# Altium footprint library MedEnginePCBLib.PcbLib: 54 footprints (part 3 of 4)
Each footprint in its own frame and in the unit in brackets; x right, y up, seen from the top. Pads: shape width x height; smd on the part's side, far side on the other; paste and mask are expansions set on the pad; w line width, h text height; cw(c..) or ccw(c..) is an arc to the next point about the centre after c.
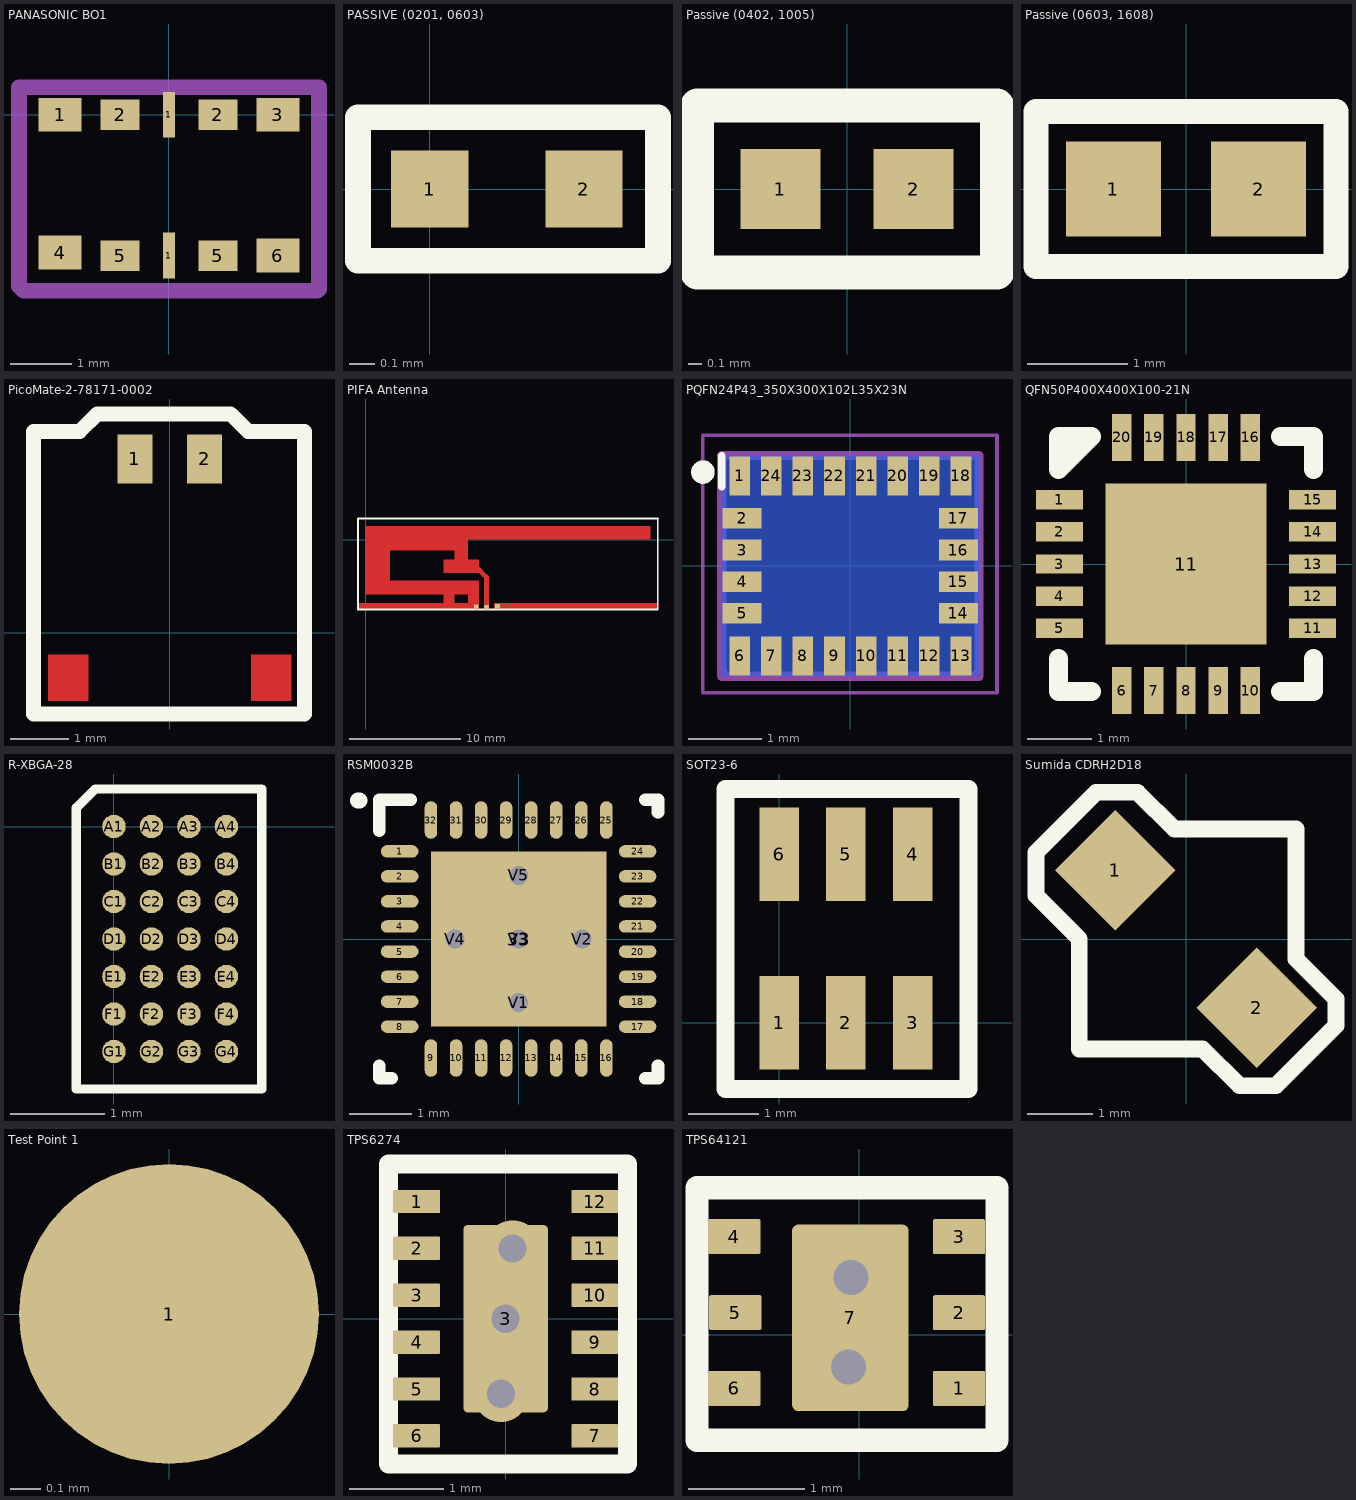
[diagram p2: the footprints below, top view; thin cyan lines are the x and y axes]

## PANASONIC BO1 [mm]
pads (10):
  rect 0.7x0.55 smd mask+0.05: 1(-1.78,0) 3(1.78,0) 4(-1.78,-2.25) 6(1.78,-2.3)
  rect 0.2x0.75 smd mask+0.05: 1(0,-2.3) 1(0,0)
  rect 0.64x0.5 smd mask+0.05: 2(-0.8,0) 2(0.8,0) 5(-0.8,-2.3) 5(0.8,-2.3)
Mechanical 1:
  lines w0.254: 2.45,0.45 2.45,-2.85 2.425,-2.875 -2.375,-2.875 -2.45,-2.8 -2.45,0.45 2.45,0.45 ; 2.45,0.45 2.45,0.45
3D body "axf361500.step": height 0.59, standoff 0, extent -2.225,-2.325 2.225,0.075

## PASSIVE (0201, 0603) [mm] "PASSIVE (0201, 0603)"
pads (2):
  rect 0.3x0.3 smd mask+0.05: 1(0,0) 2(0.6,0)
Top Overlay:
  lines w0.1: -0.279,-0.279 0.889,-0.279 0.889,0.279 0.127,0.279 -0.279,0.279 -0.279,-0.279
3D body "User Library-RES_0201-0603.STEP": height 0.34, standoff 0, extent -0.035,-0.165 0.645,0.165

## Passive (0402, 1005) [mm]
height 3
pads (2):
  rect 0.6x0.6 smd: 1(-0.5,0) 2(0.5,0)
Top Overlay:
  lines w0.254: -1.125,-0.625 -1.125,0.625 1.125,0.625 1.125,-0.625 -1.125,-0.625
3D body "User Library-RESC1005X04N.step": height 0.35, standoff 0, extent -0.5,-0.25 0.5,0.25

## Passive (0603, 1608) [mm]
height 3
pads (2):
  rect 0.95x0.95 smd: 1(-0.725,0) 2(0.725,0)
Top Overlay:
  lines w0.254: -1.5,-0.775 -1.5,0.775 1.5,0.775 1.5,-0.775 -1.5,-0.775
3D body "1608.STEP": height 0.45, standoff 0, extent -0.775,-0.425 0.775,0.425

## PCBComponent_1 - duplicate [mm]

## PicoMate-2-78171-0002 [mm] "PicoMate 2 way header"
height 2
pads (2):
  rect 0.6x0.85 smd mask+0.05: 1(-0.6,3) 2(0.6,3)
Top Layer:
  rectangle: -2.1,-1.175 -1.4,-0.375
  rectangle: 1.4,-1.175 2.1,-0.375
Top Overlay:
  lines w0.254: -2.35,-1.4 2.325,-1.4 2.325,3.475 1.35,3.475 1.05,3.775 -1.25,3.775 -1.55,3.475 -2.35,3.475 -2.35,-1.4
3D body "781710002.stp": height 1.4, standoff -0.05, extent -2.1,-1.2 2.1,3.33

## PIFA Antenna [mm] "PIFA Antenna 50 ohm (27mm x 8mm)"
pads (3):
  rect 0.43x0.43 smd paste-1: 1(10.85,-6.08) 2(9.931,-6.071)
  rect 0.43x0.43 smd paste+0 mask+0: 2(11.836,-5.994)
Top Layer:
  rectangle: 11.52,-6.3 26.27,-5.7
  rectangle: 9.18,-5.92 10.18,-4.61
  rectangle: 0,-4.96 2.18,0.18
  rectangle: 0,0 25.58,1.21
  rectangle: 0,-1 9.18,1.21
  rectangle: 6.98,-3.01 10.18,-1.8
  rectangle: 7.98,-2.36 9.18,-0.64
  rectangle: 0,-4.96 10.18,-3.67
  rectangle: 6.98,-5.97 7.98,-4.67
  rectangle: -0.69,-6.3 10.18,-5.7
  rectangle: 10.635,-6.08 11.065,-5.167
  lines w0.43: 9.92,-2.42 9.92,-2.45 10.85,-3.38 10.85,-5.3
Top Overlay:
  lines w0.15: -0.69,1.9 -0.69,-6.29 26.26,-6.29 26.26,1.89 26.27,1.9 26.265,1.895 -0.685,1.895

## PQFN24P43_350X300X102L35X23N [mm]
pads (24):
  rect 0.28x0.53 smd: 1(-1.505,1.225) 6(-1.505,-1.225) 7(-1.075,-1.225) 8(-0.645,-1.225) 9(-0.215,-1.225) 10(0.215,-1.225) 11(0.645,-1.225) 12(1.075,-1.225) 13(1.505,-1.225) 18(1.505,1.225) 19(1.075,1.225) 20(0.645,1.225) 21(0.215,1.225) 22(-0.215,1.225) 23(-0.645,1.225) 24(-1.075,1.225)
  rect 0.53x0.28 smd: 2(-1.47,0.645) 3(-1.47,0.215) 4(-1.47,-0.215) 5(-1.47,-0.645) 14(1.47,-0.645) 15(1.47,-0.215) 16(1.47,0.215) 17(1.47,0.645)
Bottom Layer:
  rectangle: -1.75,-1.5 1.75,1.5
Top Overlay:
  circle w0.16: c-2.005,1.275 r0.08
  lines w0.05: -1.755,1.475 -1.75,1.5
  lines w0.1: -1.75,1.075 -1.75,1.5
Top Solder:
  region: -1.695,1.53 -1.32,1.53 -1.32,0.923 -1.695,0.923
  region: -1.783,0.457 -1.783,0.834 -1.174,0.834 -1.174,0.457
  region: -1.32,-1.537 -1.697,-1.537 -1.697,-0.92 -1.32,-0.92
  region: 1.772,0.828 1.772,0.463 1.163,0.463 1.163,0.828
  region: -1.264,1.53 -0.89,1.53 -0.89,0.923 -1.264,0.923
  region: -0.834,1.53 -0.46,1.53 -0.46,0.924 -0.834,0.924
  region: -0.401,1.53 -0.03,1.53 -0.03,0.923 -0.401,0.923
  region: 0.462,1.53 0.83,1.53 0.83,0.925 0.462,0.925
  region: 0.03,1.53 0.4,1.53 0.4,0.923 0.03,0.923
  region: 1.325,1.53 1.69,1.53 1.69,0.923 1.325,0.923
  region: 0.892,1.53 1.26,1.53 1.26,0.923 0.892,0.923
  region: 1.772,0.398 1.772,0.032 1.162,0.032 1.162,0.398
  region: 1.773,-0.033 1.773,-0.399 1.161,-0.399 1.161,-0.033
  region: 1.773,-0.463 1.773,-0.829 1.161,-0.829 1.161,-0.463
  region: -1.783,0.027 -1.783,0.402 -1.172,0.402 -1.172,0.027
  region: -1.782,-0.402 -1.782,-0.029 -1.171,-0.029 -1.171,-0.402
  region: -1.784,-0.834 -1.784,-0.459 -1.171,-0.459 -1.171,-0.834
  region: -0.89,-1.534 -1.264,-1.534 -1.264,-0.92 -0.89,-0.92
  region: -0.46,-1.534 -0.832,-1.534 -0.832,-0.92 -0.46,-0.92
  region: -0.03,-1.534 -0.401,-1.534 -0.401,-0.92 -0.03,-0.92
  region: 0.83,-1.533 0.461,-1.533 0.461,-0.92 0.83,-0.92
  region: 0.4,-1.532 0.03,-1.532 0.03,-0.92 0.4,-0.92
  region: 1.69,-1.534 1.324,-1.534 1.324,-0.92 1.69,-0.92
  region: 1.26,-1.533 0.892,-1.533 0.892,-0.92 1.26,-0.92
Mechanical 1:
  lines w0.127: -1.75,-1.5 1.75,-1.5 1.75,1.5 -1.75,1.5 -1.75,-1.5
Mechanical 4:
  lines w0.05: -2.005,-1.725 1.995,-1.725 1.995,1.775 -2.005,1.775 -2.005,-1.725

## QFN50P400X400X100-21N [mm]
pads (21):
  rect 0.73x0.3 smd mask+0: 1(-1.965,1) 2(-1.965,0.5) 3(-1.965,0) 4(-1.965,-0.5) 5(-1.965,-1) 11(1.965,-1) 12(1.965,-0.5) 13(1.965,0) 14(1.965,0.5) 15(1.965,1)
  rect 0.3x0.73 smd mask+0: 6(-1,-1.965) 7(-0.5,-1.965) 8(0,-1.965) 9(0.5,-1.965) 10(1,-1.965) 16(1,1.965) 17(0.5,1.965) 18(0,1.965) 19(-0.5,1.965) 20(-1,1.965)
  rect 2.5x2.5 smd mask+0: 11(0,0)
Top Overlay:
  lines w0.3: -1.981,-1.473 -1.981,-1.981 -1.473,-1.981 ; 1.473,-1.981 1.981,-1.981 1.981,-1.473 ; 1.473,1.981 1.981,1.981 1.981,1.473 ; -1.981,1.473 -1.981,1.981 -1.473,1.981 -1.981,1.473
3D body "User Library-qfn20-4x4.step": height 0.92, standoff 0, extent -2,-2 2,2

## R-XBGA-28 [mm]
pads (28):
  round 0.25 smd mask+0: A1(0,0) A2(0.4,0) A3(0.8,0) A4(1.2,0) B1(0,-0.4) B2(0.4,-0.4) B3(0.8,-0.4) B4(1.2,-0.4) C1(0,-0.8) C2(0.4,-0.8) C3(0.8,-0.8) C4(1.2,-0.8) D1(0,-1.2) D2(0.4,-1.2) D3(0.8,-1.2) D4(1.2,-1.2) E1(0,-1.6) E2(0.4,-1.6) E3(0.8,-1.6) E4(1.2,-1.6) F1(0,-2) F2(0.4,-2) F3(0.8,-2) F4(1.2,-2) G1(0,-2.4) G2(0.4,-2.4) G3(0.8,-2.4) G4(1.2,-2.4)
Top Overlay:
  lines w0.1: -0.4,-2.8 1.575,-2.8 1.575,0.4 -0.2,0.4 -0.4,0.2 -0.4,-2.8
3D body "R-XBGA-N28.STEP": height 0.49, standoff -0.01, extent -0.34,-2.643 1.56,0.357

## RSM0032B [mm]
pads (38):
  oval 0.6x0.2 smd paste+0 mask+0.051: 1(-1.9,1.4) 2(-1.9,1) 3(-1.9,0.6) 4(-1.9,0.2) 5(-1.9,-0.2) 6(-1.9,-0.6) 7(-1.9,-1) 8(-1.9,-1.4) 17(1.9,-1.4) 18(1.9,-1) 19(1.9,-0.6) 20(1.9,-0.2) 21(1.9,0.2) 22(1.9,0.6) 23(1.9,1) 24(1.9,1.4)
  oval 0.2x0.6 smd paste+0 mask+0.051: 9(-1.4,-1.9) 10(-1,-1.9) 11(-0.6,-1.9) 12(-0.2,-1.9) 13(0.2,-1.9) 14(0.6,-1.9) 15(1,-1.9) 16(1.4,-1.9) 25(1.4,1.9) 26(1,1.9) 27(0.6,1.9) 28(0.2,1.9) 29(-0.2,1.9) 30(-0.6,1.9) 31(-1,1.9) 32(-1.4,1.9)
  rect 2.8x2.8 smd paste-1.387 mask+0.051: 33(0,0)
  round 0.4 hole 0.3 mask+0.051: V1(0,-1.016) V2(1.016,0) V3(0,0) V4(-1.016,0) V5(0,1.016)
Top Overlay:
  lines w0.2: -2.225,-2.025 -2.225,-2.225 -2.025,-2.225 ; -2.225,1.725 -2.225,2.225 -1.725,2.225 ; 2.025,-2.225 2.225,-2.225 2.225,-2.025 ; 2.025,2.225 2.225,2.225 2.225,2.025
  lines w0.254: -2.565,2.21 -2.54,2.21
Top Paste:
  region: -1.329,0.1 -0.1,0.1 -0.1,1.329 -1.329,1.329
  region: 0.1,0.1 1.329,0.1 1.329,1.329 0.1,1.329
  region: -1.329,-1.329 -0.1,-1.329 -0.1,-0.1 -1.329,-0.1
  region: 0.1,-1.329 1.329,-1.329 1.329,-0.1 0.1,-0.1
3D body "RSM0032B.stp": height 1, standoff 0, extent -2,-2 2,2

## SOT23-6 [mm] "For MAX1921EU18T"
pads (6):
  rect 0.56x1.33 smd mask+0.05: 1(0,0) 2(0.95,0) 3(1.9,0) 4(1.9,2.4) 5(0.95,2.4) 6(0,2.4)
Top Overlay:
  lines w0.254: -0.762,-0.94 -0.762,3.327 0,3.327 2.692,3.327 2.692,-0.94 -0.762,-0.94
3D body "User Library-SOT-23-6-1.STEP": height 1.35, standoff -0.11, extent -0.535,-0.23 2.465,2.77

## Sumida CDRH2D18 [mm]
pads (2):
  rect 1.3x1.3 smd rot 45 mask+0.05: 1(-1.075,1.05) 2(1.075,-1.05)
Top Overlay:
  lines w0.254: -2.286,0.66 -2.286,1.321 -1.372,2.235 -0.737,2.235 -0.178,1.676 1.676,1.676 1.676,-0.305 2.286,-0.914 2.286,-1.321 1.372,-2.235 0.813,-2.235 0.254,-1.676 -1.626,-1.676 -1.626,0 -2.286,0.66
3D body "CDRH2D18.STEP": height 2, standoff 0, extent -1.538,-1.538 1.538,1.538

## Test Point 1 [mm] "1mm  Test Point"
pads (1):
  round 1 smd paste-2: 1(0,0)

## TPS6274 [mm] "STEP DOWN CONVERTER"
pads (13):
  rrect10% 0.5x0.25 smd paste+0 mask+0: 1(-0.95,1.25) 2(-0.95,0.75) 3(-0.95,0.25) 4(-0.95,-0.25) 5(-0.95,-0.75) 6(-0.95,-1.25) 7(0.95,-1.25) 8(0.95,-0.75) 9(0.95,-0.25) 10(0.95,0.25) 11(0.95,0.75) 12(0.95,1.25)
  rrect10% 0.9x2 smd paste+0 mask+0: 3(0,0)
via 0,0 diameter 0.6 hole 0.3
via -0.05,-0.8 diameter 0.6 hole 0.3
via 0.075,0.75 diameter 0.6 hole 0.3
Top Overlay:
  lines w0.2: -1.25,-1.55 -1.25,1.65 1.3,1.65 1.3,-1.55 -1.25,-1.55
3D body "DSS0012A.stp": height 0.8, standoff 0, extent -1,-1.5 1,1.5

## TPS64121 [mm]
pads (7):
  rrect10% 0.45x0.3 smd paste+0 mask+0: 1(0.858,-0.463) 2(0.858,0.188) 3(0.858,0.841) 4(-1.072,0.841) 5(-1.062,0.188) 6(-1.072,-0.463)
  rrect10% 1x1.6 smd paste+0 mask+0: 7(-0.075,0.143)
via -0.092,-0.277 diameter 0.6 hole 0.3
via -0.07,0.49 diameter 0.6 hole 0.3
Top Overlay:
  lines w0.2: -1.392,-0.908 -1.392,1.26 1.184,1.26 1.184,-0.908 -1.392,-0.908
3D body: height 0.25, standoff 0, extent -1.113,-0.799 0.884,1.171